# EAGLE library part MC14069UBCP (library User-Submitted)
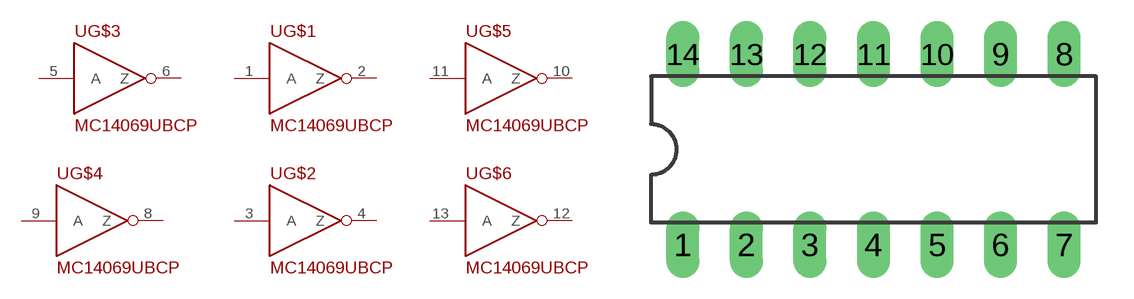
[diagram p23: symbol with the pads of DIL14; footprint DIL14]

Designator prefix -; gates G$1=MC14069UB G$2=MC14069UB G$3=MC14069UB G$4=MC14069UB G$5=MC14069UB G$6=MC14069UB

## MC14069UBCP  [DIL14]
1  G$1:A  in
2  G$1:Z  out
3  G$2:A  in
4  G$2:Z  out
5  G$3:A  in
6  G$3:Z  out
8  G$4:Z  out
9  G$4:A  in
10  G$5:Z  out
11  G$5:A  in
12  G$6:Z  out
13  G$6:A  in

## Footprint DIL14 (pad centres in mm)
Dual In Line Package
drill 0.813 long: 1 -7.62,-3.81; 2 -5.08,-3.81; 3 -2.54,-3.81; 4 0,-3.81; 5 2.54,-3.81; 6 5.08,-3.81; 7 7.62,-3.81; 8 7.62,3.81; 9 5.08,3.81; 10 2.54,3.81; 11 0,3.81; 12 -2.54,3.81; 13 -5.08,3.81; 14 -7.62,3.81